# EAGLE library part FREESCALE-MMA8451Q (library GClue-Mems)
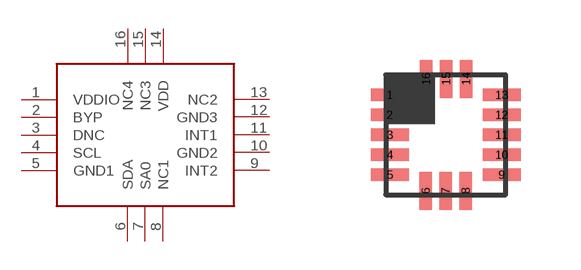
[diagram p0: symbol with the pads of FREESCALE-MMA8451Q; footprint FREESCALE-MMA8451Q]

Designator prefix MMA

## FREESCALE-MMA8451Q  [FREESCALE-MMA8451Q]
1  VDDIO
2  BYP
3  DNC
4  SCL
5  GND1
6  SDA
7  SA0
8  NC1
9  INT2
10  GND2
11  INT1
12  GND3
13  NC2
14  VDD
15  NC3
16  NC4

## Footprint FREESCALE-MMA8451Q (pad centres in mm)
smd 0.95 x 0.305: 1 -1.4,1; 2 -1.4,0.5; 3 -1.4,0; 4 -1.4,-0.5; 5 -1.4,-1; 9 1.4,-1; 10 1.4,-0.5; 11 1.4,0; 12 1.4,0.5; 13 1.4,1
smd 0.305 x 0.95: 6 -0.5,-1.4; 7 0,-1.4; 8 0.5,-1.4; 14 0.51,1.4; 15 0.01,1.4; 16 -0.49,1.4